# Altium footprint library ESP_SENSOR_STATION_REV1.PcbLib: 27 footprints (part 1 of 2)
Each footprint in its own frame and in the unit in brackets; x right, y up, seen from the top. Pads: shape width x height; smd on the part's side, far side on the other; paste and mask are expansions set on the pad; w line width, h text height; cw(c..) or ccw(c..) is an arc to the next point about the centre after c.
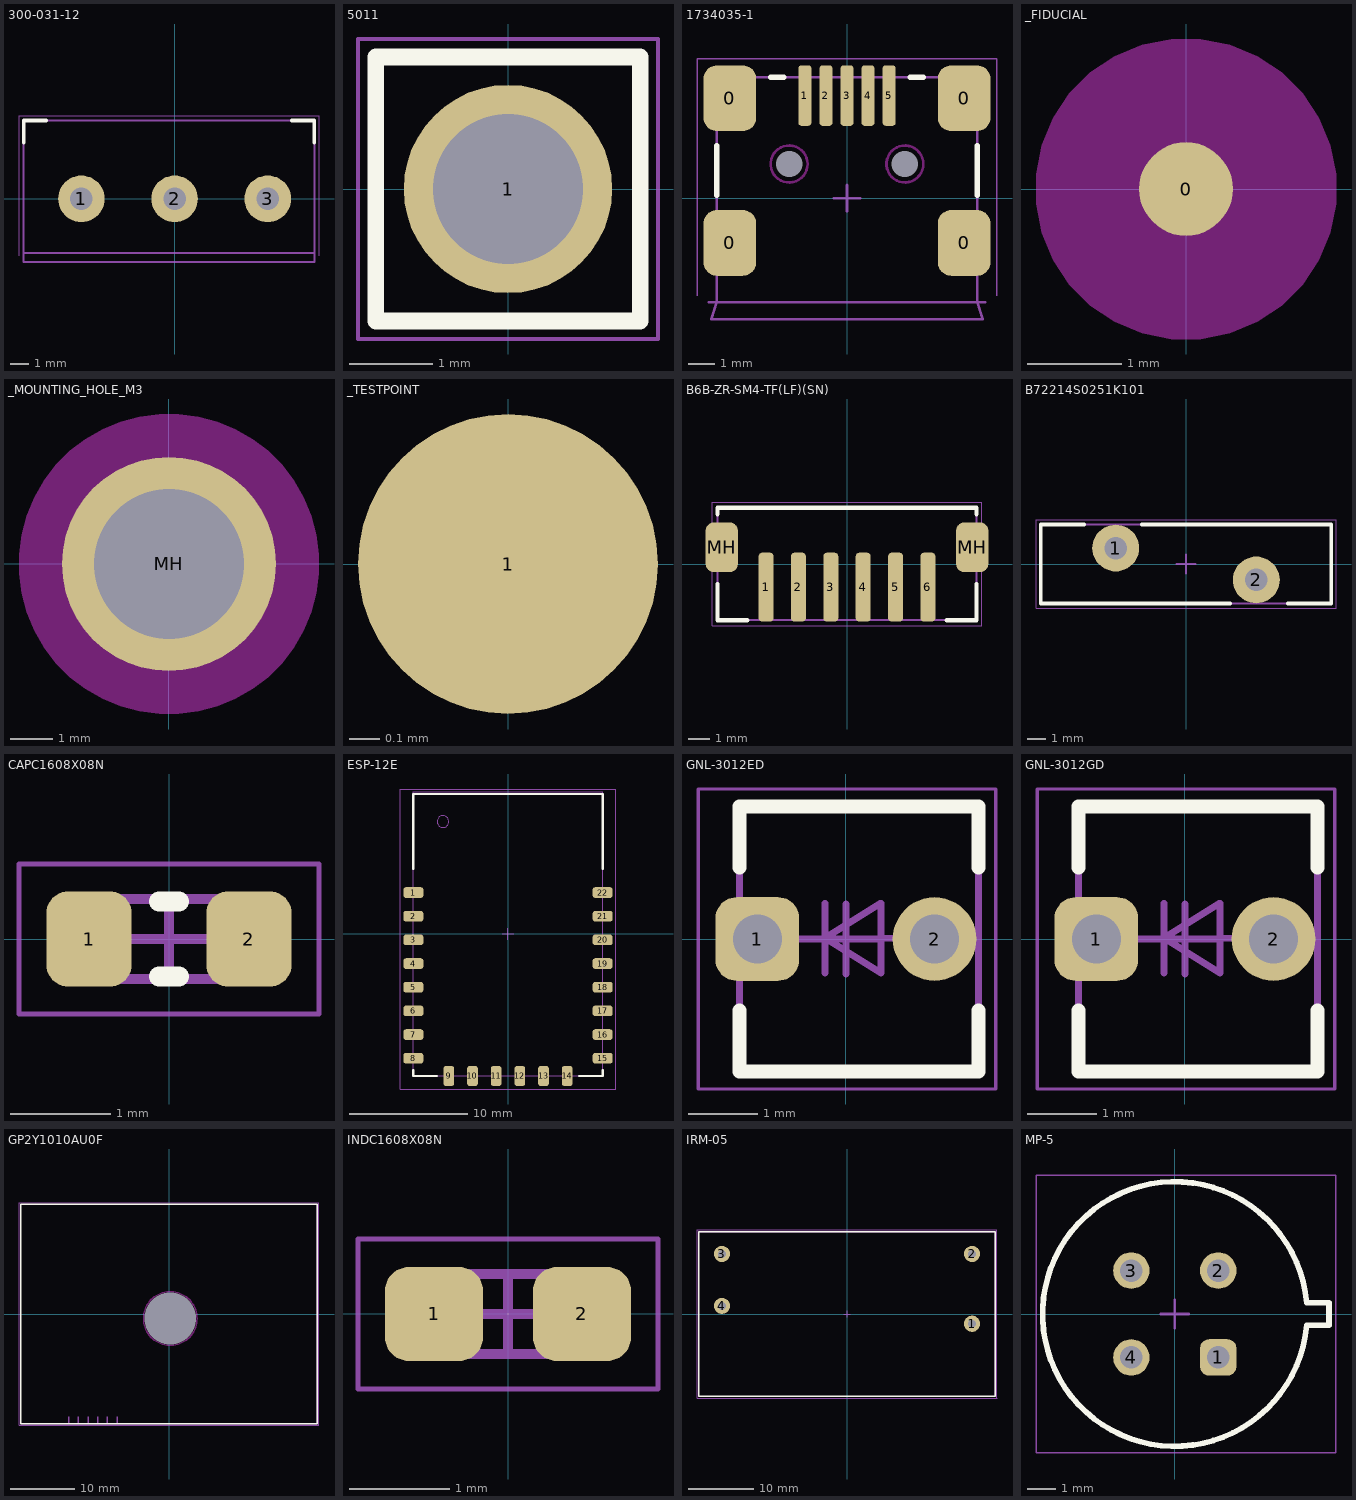
[diagram p0: the footprints below, top view; thin cyan lines are the x and y axes]

## 300-031-12 [mm]
height 12.5
pads (3):
  round 2.5 hole 1.2 mask+0.05: 1(-5,0) 2(0,0) 3(5,0)
Top Overlay:
  lines w0.2: -8.1,3 -8.1,4.2 -6.9,4.2 ; 6.3,4.2 7.5,4.2 7.5,3
Board:
  lines w0.1: -8.1,-3.4 7.5,-3.4
Top Assembly:
  lines w0.1: -8.1,-2.9 7.5,-2.9 ; -8.1,-3.4 7.5,-3.4 7.5,4.2 -8.1,4.2 -8.1,-3.4
  text ".Designator" at -4.775,2.083 h1
Top Courtyard (Mech13):
  lines w0.05: -8.35,-3.05 -8.35,4.45 7.75,4.45 7.75,-3.05
3D body "DG301-5_0-3P12.STEP": height 10, standoff -4.16, extent -8.1,-3.4 7.5,4.2

## 5011 [mm]
pads (1):
  round 2.5 hole 1.8: 1(0,0)
Top Overlay:
  lines w0.2: -1.587,-1.584 1.587,-1.584 1.587,1.584 -1.587,1.584 -1.587,-1.584
Top Assembly:
  lines w0.1: -1.587,-1.584 -1.587,1.584 1.587,1.584 1.587,-1.584 -1.587,-1.584
  text ".Designator" at -3.1,-0.8 h1
Top Courtyard (Mech13):
  lines w0.05: -1.8,-1.8 1.8,-1.8 1.8,1.8 -1.8,1.8 -1.8,-1.8
3D body "User Library-TEST POINT BLK Keystone 5011.x_t": height 8.13, standoff -3.1, extent -1.587,-1.584 1.587,1.584

## 1734035-1 [mm]
height 3.9
pads (11):
  rrect50% 2x2.5 smd paste-0.05 mask+0.05: 0(-4.45,-1.7) 0(-4.45,3.8) 0(4.45,-1.7) 0(4.45,3.8)
  rrect50% 0.5x2.3 smd paste-0.05 mask+0.05: 1(-1.6,3.9) 2(-0.8,3.9) 3(0,3.9) 4(0.8,3.9) 5(1.6,3.9)
  round 0 hole 1 unplated mask+0.1: MH(-2.2,1.3) MH(2.2,1.3)
Top Overlay:
  lines w0.2: -4.95,0.1 -4.95,2 ; -2.9,4.6 -2.4,4.6 ; 2.4,4.6 2.9,4.6 ; 4.95,0.1 4.95,2
Keep-Out Layer:
  circle w0.1: c2.2,1.3 r0.702
  circle w0.1: c-2.2,1.3 r0.702
Board:
  lines w0.1: -4.95,-3.95 4.95,-3.95
Top Assembly:
  lines w0.1: -5.25,-3.95 -4.95,-3.95 ; 5.25,-3.95 4.95,-3.95 ; -4.95,-3.95 -4.95,4.6 4.95,4.6 4.95,-3.95 ; -4.95,-3.95 4.95,-3.95 ; -4.95,-3.95 -5.15,-4.6 5.15,-4.6 4.95,-3.95
  text ".Designator" at -0.875,-0.417 h1
Top Courtyard (Mech13):
  lines w0.05: -5.7,-3.7 -5.7,5.3 5.7,5.3 5.7,-3.7
  lines w0.1: -0.5,0 0.5,0 ; 0,-0.5 0,0.5
3D body "1734035-1-a-3d.step": height 4.14, standoff -0.95, extent -4.95,-4.6 4.95,4.6

## _FIDUCIAL [mm]
pads (1):
  round 1 smd paste-10 mask+1: 0(0,0)
Top Layer keep-out:
  region: -1.6,0 -1.6,0.158 -1.539,0.467 -1.418,0.758 -1.243,1.02 -1.02,1.243 -0.758,1.418 -0.467,1.539 -0.158,1.6 0,1.6 0.158,1.6 0.467,1.539 0.758,1.418 1.02,1.243 1.243,1.02 1.418,0.758 1.539,0.467 1.6,0.158 1.6,0 1.6,-0.158 1.539,-0.467 1.418,-0.758 1.243,-1.02 1.02,-1.243 0.758,-1.418 0.467,-1.539 0.158,-1.6 0,-1.6 -0.158,-1.6 -0.467,-1.539 -0.758,-1.418 -1.02,-1.243 -1.243,-1.02 -1.418,-0.758 -1.539,-0.467 -1.6,-0.158

## _MOUNTING_HOLE_M3 [mm]
pads (1):
  round 5 hole 3.5 mask+0.1: MH(0,0)
Keep-Out Layer:
  region: -3.5,0 -3.5,0.229 -3.44,0.684 -3.321,1.127 -3.146,1.551 -2.916,1.949 -2.637,2.313 -2.313,2.637 -1.949,2.916 -1.551,3.146 -1.128,3.321 -0.684,3.44 -0.229,3.5 0,3.5 0.229,3.5 0.684,3.44 1.127,3.321 1.551,3.146 1.949,2.916 2.313,2.637 2.637,2.313 2.916,1.949 3.146,1.551 3.321,1.128 3.44,0.684 3.5,0.229 3.5,0 3.5,-0.229 3.44,-0.684 3.321,-1.127 3.146,-1.551 2.916,-1.949 2.637,-2.313 2.313,-2.637 1.949,-2.916 1.551,-3.146 1.128,-3.321 0.684,-3.44 0.229,-3.5 0,-3.5 -0.229,-3.5 -0.684,-3.44 -1.127,-3.321 -1.551,-3.146 -1.949,-2.916 -2.313,-2.637 -2.637,-2.313 -2.916,-1.949 -3.146,-1.551 -3.321,-1.127 -3.44,-0.684 -3.5,-0.229

## _TESTPOINT [mm]
pads (1):
  round 1 smd paste-10 mask+0.05: 1(0,0)

## B6B-ZR-SM4-TF(LF)(SN) [mm]
height 5
pads (8):
  rrect50% 0.7x3.2 smd paste-0.05 mask+0.05: 1(-3.75,-1.075) 2(-2.25,-1.075) 3(-0.75,-1.075) 4(0.75,-1.075) 5(2.25,-1.075) 6(3.75,-1.075)
  rrect50% 1.5x2.3 smd paste-0.05 mask+0.05: MH(-5.8,0.775) MH(5.8,0.775)
Top Overlay:
  lines w0.2: -6,-0.925 -6,-2.6 -4.625,-2.6 ; -6,2.3 -6,2.6 6,2.6 6,2.3 ; 4.625,-2.6 6,-2.6 6,-0.925
Top Assembly:
  lines w0.1: -6,-2.6 -6,2.6 6,2.6 6,-2.6 -6,-2.6
  text ".Designator" at -4.801,-0.667 h1
Top Courtyard (Mech13):
  lines w0.05: -6.25,-2.85 6.25,-2.85 6.25,2.85 -6.25,2.85 -6.25,-2.85
3D body "B6B-ZR-SM4-TF.step": height 5, standoff 0, extent -6,-2.6 6,2.6

## B72214S0251K101 [mm]
height 18.5
pads (2):
  round 2.5 hole 1.2 mask+0.05: 1(-3.75,0.85) 2(3.75,-0.85)
Top Overlay:
  lines w0.2: -5.425,2.1 -7.75,2.1 -7.75,-2.1 2.35,-2.1 ; -2.35,2.1 7.75,2.1 7.75,-2.1 5.425,-2.1
Top Assembly:
  lines w0.1: -7.75,-2.1 7.75,-2.1 7.75,2.1 -7.75,2.1 -7.75,-2.1
  text ".Designator" at -0.875,-0.417 h1
Top Courtyard (Mech13):
  lines w0.05: -8,-2.35 8,-2.35 8,2.35 -8,2.35 -8,-2.35
  lines w0.1: -0.5,0 0.5,0 ; 0,-0.5 0,0.5
3D body "B72214S0111K101.STEP": height 18.75, standoff -2, extent -7.75,-2.1 7.75,2.1

## CAPC1608X08N [mm] "Chip Capacitor, 2-Leads, Body 1,60x0,80mm, IPC Medium Density"
height 0.8
pads (2):
  rrect50% 0.85x0.95 smd paste-0.05 mask+0.05: 1(-0.8,0) 2(0.8,0)
Top Overlay:
  lines w0.2: -0.1,-0.375 0.1,-0.375 ; -0.1,0.375 0.1,0.375
Top Assembly:
  lines w0.1: -0.8,-0.4 0.8,-0.4 0.8,0.4 -0.8,0.4 -0.8,-0.4
  text ".Designator" at -1.175,0.883 h1
Top Courtyard (Mech13):
  lines w0.05: -1.5,-0.75 1.5,-0.75 1.5,0.75 -1.5,0.75 -1.5,-0.75
  lines w0.1: -0.4,0 0.4,0 ; 0,-0.4 0,0.4
3D body "CAPC1608X08N.step": height 0.8, standoff 0, extent -0.8,-0.4 0.8,0.4

## ESP-12E [mm]
height 3
pads (22):
  rrect50% 1.7x0.9 smd paste-0.05 mask+0.05: 1(-8,3.5) 2(-8,1.5) 3(-8,-0.5) 4(-8,-2.5) 5(-8,-4.5) 6(-8,-6.5) 7(-8,-8.5) 8(-8,-10.5) 15(8,-10.5) 16(8,-8.5) 17(8,-6.5) 18(8,-4.5) 19(8,-2.5) 20(8,-0.5) 21(8,1.5) 22(8,3.5)
  rrect50% 0.9x1.7 smd paste-0.05 mask+0.05: 9(-5,-12) 10(-3,-12) 11(-1,-12) 12(1,-12) 13(3,-12) 14(5,-12)
Top Overlay:
  lines w0.2: -8,-11.5 -8,-12 -6,-12 ; -8,5.5 -8,11.825 8,11.825 8,5.5 ; 6,-12 8,-12 8,-11.5
Top Assembly:
  circle w0.1: c-5.5,9.5 r0.5
  lines w0.1: -8,-12 -8,12 8,12 8,-12 -8,-12
  text ".Designator" at -4.375,-0.317 h1
Top Courtyard (Mech13):
  lines w0.05: -9.1,-13.1 9.1,-13.1 9.1,12.25 -9.1,12.25 -9.1,-13.1
  lines w0.1: -0.5,0 0.5,0 ; 0,-0.5 0,0.5
3D body "ESP-12E.step": height 2.65, standoff -0.04, extent -8.01,-12.002 8,12.003

## GNL-3012ED [mm]
height 4.5
pads (2):
  rrect50% 1.2x1.2 hole 0.7 mask+0.05: 1(-1.27,0)
  round 1.2 hole 0.7 mask+0.05: 2(1.27,0)
Top Overlay:
  lines w0.2: -1.525,-1.025 -1.525,-1.9 1.9,-1.9 1.9,-1.025 ; -1.525,1.025 -1.525,1.9 1.9,1.9 1.9,1.025
Top Assembly:
  lines w0.1: -1.1,0 -0.3,0 ; -0.3,-0.487 -0.3,0.512 ; 0.5,0.012 1.2,0 ; -1.526,-1.9 1.9,-1.9 1.9,1.9 -1.526,1.9 -1.526,-1.9 ; -0.3,0.012 0.5,0.512 0.5,-0.487 -0.3,0.012
  text ".Designator" at -1.376,2.383 h1
Top Courtyard (Mech13):
  lines w0.05: -2.12,-2.15 2.15,-2.15 2.15,2.15 -2.12,2.15 -2.12,-2.15
  lines w0.1: -0.5,0 0.5,0 ; 0,-0.5 0,0.5
3D body "everlight-3MM-LED-YELLOW.STEP": height 9.64, standoff -2.93, extent -1.526,-1.9 1.9,1.9

## GNL-3012GD [mm]
height 4.5
pads (2):
  rrect50% 1.2x1.2 hole 0.7 mask+0.05: 1(-1.27,0)
  round 1.2 hole 0.7 mask+0.05: 2(1.27,0)
Top Overlay:
  lines w0.2: -1.525,-1.025 -1.525,-1.9 1.9,-1.9 1.9,-1.025 ; -1.525,1.025 -1.525,1.9 1.9,1.9 1.9,1.025
Top Assembly:
  lines w0.1: -1.1,0 -0.3,0 ; -0.3,-0.487 -0.3,0.512 ; 0.5,0.012 1.2,0 ; -1.526,-1.9 1.9,-1.9 1.9,1.9 -1.526,1.9 -1.526,-1.9 ; -0.3,0.012 0.5,0.512 0.5,-0.487 -0.3,0.012
  text ".Designator" at -1.376,2.383 h1
Top Courtyard (Mech13):
  lines w0.05: -2.12,-2.15 2.15,-2.15 2.15,2.15 -2.12,2.15 -2.12,-2.15
  lines w0.1: -0.5,0 0.5,0 ; 0,-0.5 0,0.5
3D body "everlight-3MM-LED-GREEN.step": height 9.64, standoff -2.93, extent -1.526,-1.9 1.9,1.9

## GP2Y1010AU0F [mm]
height 17.6
pads (1):
  round 0 hole 8 unplated mask+0.1: 0(0.2,-0.7)
Top Overlay:
  lines w0.2: -23,-17 23,-17 23,17 -23,17 -23,-17
Keep-Out Layer:
  circle w0.2: c0.2,-0.7 r4.151
Top Assembly:
  lines w0.1: -23,-17 -23,17 23,17 23,-17 -23,-17
  lines w0.2: -15.55,-17 -15.55,-15.9 ; -14.05,-17 -14.05,-15.9 ; -12.55,-17 -12.55,-15.9 ; -11.05,-17 -11.05,-15.9 ; -9.55,-17 -9.55,-15.9 ; -8.05,-17 -8.05,-15.9
  text ".Designator" at -1.626,-9.867 h1
  text "1" at -15.717,-15.35 h1
  text "2" at -14.217,-15.35 h1
  text "3" at -12.717,-15.35 h1
  text "4" at -11.217,-15.35 h1
  text "5" at -9.717,-15.35 h1
  text "6" at -8.217,-15.35 h1
Top Courtyard (Mech13):
  lines w0.05: -23.25,-17.25 -23.25,17.25 23.25,17.25 23.25,-17.25 -23.25,-17.25
3D body "GP2Y1010AU0F.step": height 18.3, standoff 0, extent -23,-17 23,17

## INDC1608X08N [mm] "Chip Inductor, 2-Leads, Body 1,60x0,80mm, IPC Medium Density"
height 0.8
pads (2):
  rrect50% 0.98x0.94 smd paste-0.05 mask+0.05: 1(-0.74,0) 2(0.74,0)
Top Assembly:
  lines w0.1: -0.8,-0.4 -0.8,0.4 0.8,0.4 0.8,-0.4 -0.8,-0.4
  text ".Designator" at 0.15,0.483 h1
Top Courtyard (Mech13):
  lines w0.05: -1.5,-0.75 -1.5,0.75 1.5,0.75 1.5,-0.75 -1.5,-0.75
  lines w0.1: -0.4,0 0.4,0 ; 0,-0.4 0,0.4
3D body "INDC1608X08N.step": height 0.8, standoff 0, extent -0.8,-0.4 0.8,0.4

## IRM-05 [mm]
height 21.5
pads (4):
  round 2.5 hole 1.2: 1(19.25,-1.5) 2(19.25,9.25) 3(-19.25,9.25) 4(-19.25,1.25)
Top Overlay:
  lines w0.2: -22.84,-12.69 -22.84,12.69 22.84,12.69 22.84,-12.69 -22.84,-12.69
Top Assembly:
  lines w0.1: -22.84,-12.69 22.84,-12.69 22.84,12.69 -22.84,12.69 -22.84,-12.69
  text ".Designator" at -4.375,-0.317 h1
Top Courtyard (Mech13):
  lines w0.05: -23.09,-12.94 -23.09,12.94 23.09,12.94 23.09,-12.94 -23.09,-12.94
  lines w0.1: -0.5,0 0.5,0 ; 0,-0.5 0,0.5
3D body "IRM-05.step": height 21.5, standoff -3.5, extent -22.839,-12.689 22.84,12.69

## MP-5 [mm]
height 7
pads (4):
  rrect50% 1.3x1.3 hole 0.8 mask+0.05: 1(1.55,-1.55)
  round 1.3 hole 0.8 mask+0.05: 2(1.55,1.55) 3(-1.55,1.55) 4(-1.55,-1.55)
Top Overlay:
  lines w0.2: 4.7,-0.4 cw(c0,0) 4.7,0.4 5.5,0.4 5.5,-0.4 4.7,-0.4
Top Assembly:
  lines w0.1: 4.7,-0.4 cw(c0,0) 4.7,0.4 5.5,0.4 5.5,-0.4 4.7,-0.4
  text ".Designator" at -4.375,-0.317 h1
Top Courtyard (Mech13):
  lines w0.05: -4.95,-4.95 5.75,-4.95 5.75,4.95 -4.95,4.95 -4.95,-4.95
  lines w0.1: -0.5,0 0.5,0 ; 0,-0.5 0,0.5
3D body "MP-5_gas_sensor.step": height 7.48, standoff -10, extent -4.7,-4.7 5.5,4.7